# Altium schematic symbol library buttons.SchLib: 1 symbol
Pins are listed as number, name and electrical type; pins without a type are passive.

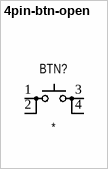
[diagram p0: symbol 4pin-btn-open]

## 4pin-btn-open
designator BTN?
pins: 1, 2, 3, 4